# EAGLE library part AFE4400RHAR---TI_AFE4400 (library Esquematico_ppg)
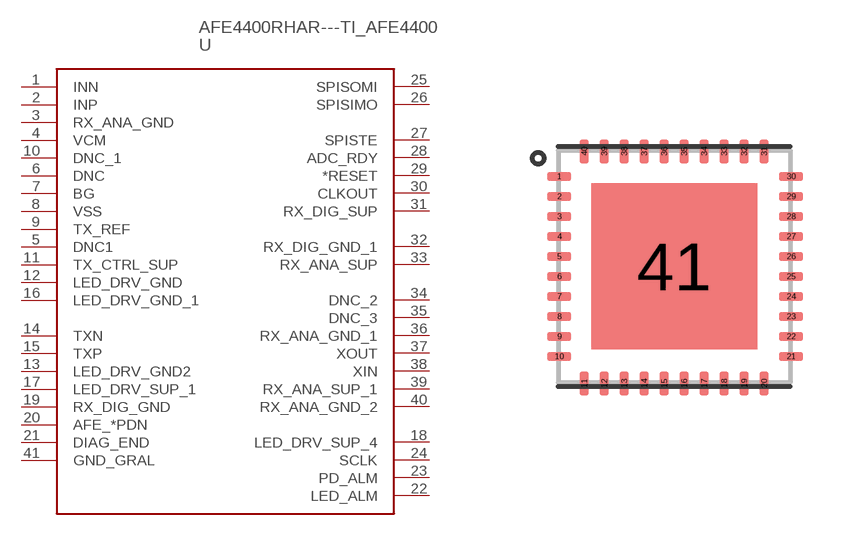
[diagram p0: symbol with the pads of AFE4400RHAR---TI_40-VQFN(6X6); footprint AFE4400RHAR---TI_40-VQFN(6X6)]

Designator prefix -

## AFE4400RHAR---TI_AFE4400  [AFE4400RHAR---TI_40-VQFN(6X6)]
1  INN  pas
2  INP  in
3  RX_ANA_GND  pas
4  VCM
5  DNC1  nc
6  DNC  nc
7  BG  pas
8  VSS  pwr
9  TX_REF  pas
10  DNC_1  nc
11  TX_CTRL_SUP  pas
12  LED_DRV_GND  pas
13  LED_DRV_GND2  pas
14  TXN  out
15  TXP  out
16  LED_DRV_GND_1  pas
17  LED_DRV_SUP_1  pas
18  LED_DRV_SUP_4  pas
19  RX_DIG_GND  pas
20  AFE_*PDN  in
21  DIAG_END  out
22  LED_ALM  out
23  PD_ALM  out
24  SCLK  sup
25  SPISOMI  in
26  SPISIMO  out
27  SPISTE  pas
28  ADC_RDY  out
29  *RESET  in
30  CLKOUT  out
31  RX_DIG_SUP  pas
32  RX_DIG_GND_1  pas
33  RX_ANA_SUP  pas
34  DNC_2  nc
35  DNC_3  nc
36  RX_ANA_GND_1  pas
37  XOUT  out
38  XIN  in
39  RX_ANA_SUP_1  pas
40  RX_ANA_GND_2  pas
41  GND_GRAL

## Footprint AFE4400RHAR---TI_40-VQFN(6X6) (pad centres in mm)
smd 0.6 x 0.22: 1 -2.875,2.25; 2 -2.875,1.75; 3 -2.875,1.25; 4 -2.875,0.75; 5 -2.875,0.25; 6 -2.875,-0.25; 7 -2.875,-0.75; 8 -2.875,-1.25; 9 -2.875,-1.75; 10 -2.875,-2.25; 21 2.925,-2.25; 22 2.925,-1.75; 23 2.925,-1.25; 24 2.925,-0.75; 25 2.925,-0.25; 26 2.925,0.25; 27 2.925,0.75; 28 2.925,1.25; 29 2.925,1.75; 30 2.925,2.25
smd 0.22 x 0.6: 11 -2.25,-2.925; 12 -1.75,-2.925; 13 -1.25,-2.925; 14 -0.75,-2.925; 15 -0.25,-2.925; 16 0.25,-2.925; 17 0.75,-2.925; 18 1.25,-2.925; 19 1.75,-2.925; 20 2.25,-2.925; 31 2.25,2.875; 32 1.75,2.875; 33 1.25,2.875; 34 0.75,2.875; 35 0.25,2.875; 36 -0.25,2.875; 37 -0.75,2.875; 38 -1.25,2.875; 39 -1.75,2.875; 40 -2.25,2.875
smd 4.15 x 4.15: 41 0,0